# Altium footprint library SOT323.PcbLib: 1 footprints
Each footprint in its own frame and in the unit in brackets; x right, y up, seen from the top. Pads: shape width x height; smd on the part's side, far side on the other; paste and mask are expansions set on the pad; w line width, h text height; cw(c..) or ccw(c..) is an arc to the next point about the centre after c.
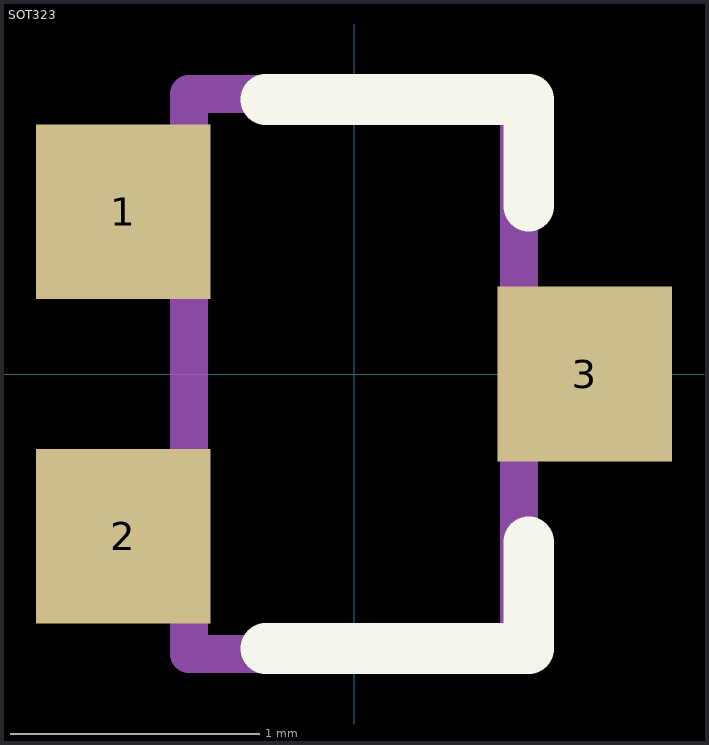
[diagram p0: the footprint, top view; thin cyan lines are the x and y axes]

## SOT323 [mm]
pads (3):
  rect 0.7x0.7 smd: 1(-0.925,0.65) 2(-0.925,-0.65) 3(0.925,0)
Top Overlay:
  lines w0.203: -0.354,-1.1 0.7,-1.1 0.7,-0.673 ; -0.354,1.1 0.7,1.1 0.7,0.673
Assembly Top:
  lines w0.152: -0.66,-1.122 0.66,-1.122 0.66,1.122 -0.66,1.122 -0.66,-1.122
3D body "step_temp.STEP": height 1.1, standoff 0, extent -1.05,-1.075 1.05,1.075